# EAGLE library part MOLEX-22-05-7085 (library OSSI)
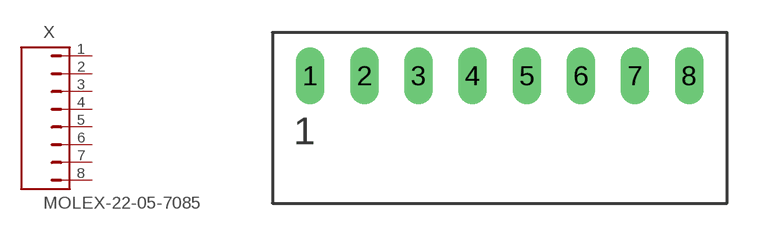
[diagram p34: symbol with the pads of 22-05-7085; footprint 22-05-7085]

Designator prefix X

## MOLEX-22-05-7085  [22-05-7085]
1  1  pas
2  2  pas
3  3  pas
4  4  pas
5  5  pas
6  6  pas
7  7  pas
8  8  pas

## Footprint 22-05-7085 (pad centres in mm)
drill 0.8 long: 1 -8.75,0; 2 -6.25,0; 3 -3.75,0; 4 -1.25,0; 5 1.25,0; 6 3.75,0; 7 6.25,0; 8 8.75,0